# Altium schematic symbol library CAT24C256W.Schlib: 1 symbol
Pins are listed as number, name and electrical type; pins without a type are passive.

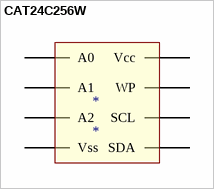
[diagram p0: symbol CAT24C256W]

## CAT24C256W
designator *
IC EEPROM (Beaglebone standard)
pins: 1 A0, 2 A1, 3 A2, 4 Vss, 5 SDA, 6 SCL, 7 WP, 8 Vcc